# Altium footprint library PCBlib.PcbLib: 43 footprints (part 1 of 3)
Each footprint in its own frame and in the unit in brackets; x right, y up, seen from the top. Pads: shape width x height; smd on the part's side, far side on the other; paste and mask are expansions set on the pad; w line width, h text height; cw(c..) or ccw(c..) is an arc to the next point about the centre after c.
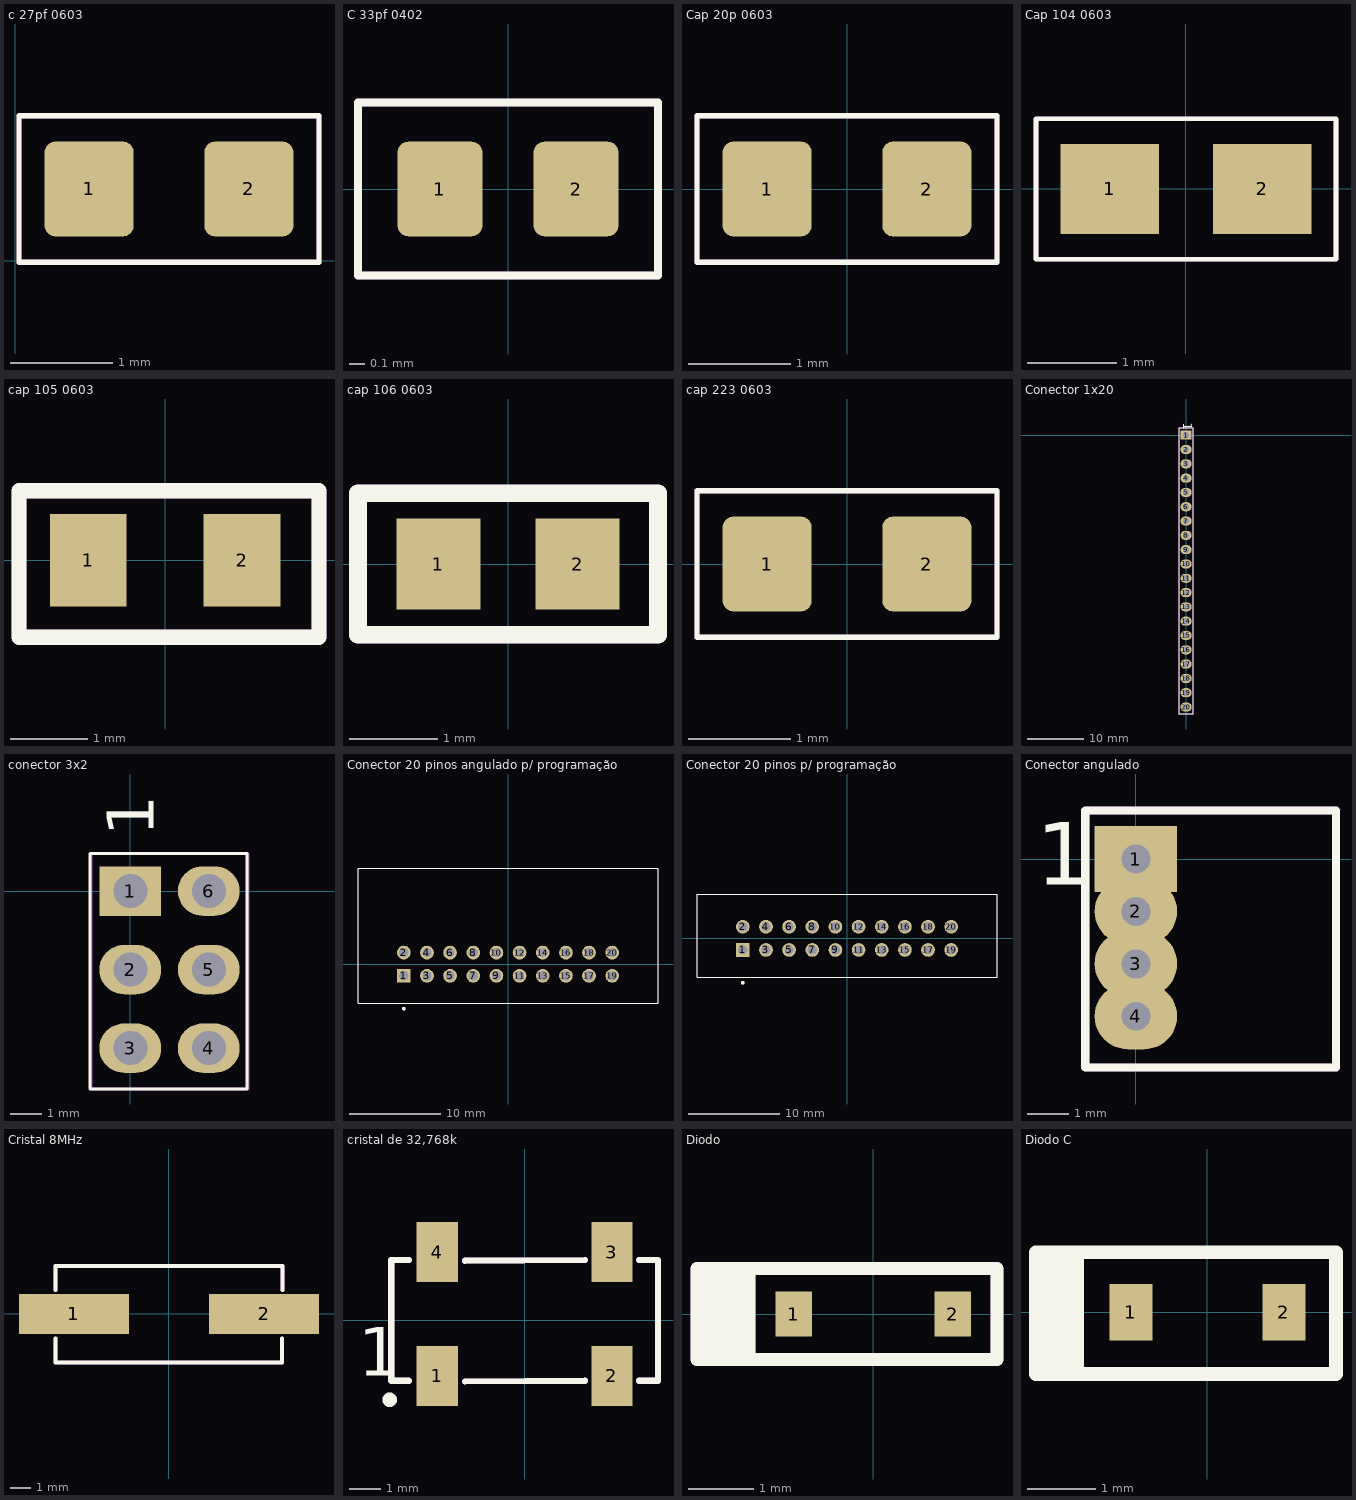
[diagram p0: the footprints below, top view; thin cyan lines are the x and y axes]

## c 27pf 0603 [mm]
pads (2):
  rrect25% 0.87x0.93 smd: 1(0.72,0.7) 2(2.28,0.7)
Top Overlay:
  lines w0.05: 0.035,-0.015 0.035,1.415 2.965,1.415 2.965,-0.015 0.035,-0.015
Top Assembly:
  lines w0.05: 0.035,-0.015 0.035,1.415 2.965,1.415 2.965,-0.015 0.035,-0.015
3D body "cap 27pf 0603.step": height 0.81, standoff 0.01, extent 0.75,0.25 2.35,1.15

## C 33pf 0402 [mm]
pads (2):
  rrect25% 0.54x0.6 smd: 1(-0.432,0) 2(0.432,0)
Top Overlay:
  lines w0.05: -0.952,-0.55 0.952,-0.55 0.952,0.55 -0.952,0.55 -0.952,-0.55
Top Assembly:
  lines w0.05: -0.952,-0.55 0.952,-0.55 0.952,0.55 -0.952,0.55 -0.952,-0.55
  text ".Designator" at -0.55,-0.317 h0.7
3D body "C 33pf 0402.STEP": height 0.51, standoff 0.01, extent -0.512,-0.301 0.488,0.249

## Cap 20p 0603 [mm]
pads (2):
  rrect25% 0.87x0.93 smd: 1(-0.78,0) 2(0.78,0)
Top Overlay:
  lines w0.05: -1.465,-0.715 1.465,-0.715 1.465,0.715 -1.465,0.715 -1.465,-0.715
Top Assembly:
  lines w0.05: -1.465,-0.715 1.465,-0.715 1.465,0.715 -1.465,0.715 -1.465,-0.715
  text ".Designator" at -1.25,-0.617 h0.7
3D body "cap 20p .STEP": height 0.81, standoff 0.01, extent -0.775,-0.45 0.825,0.45

## Cap 104 0603 [mm]
pads (2):
  rect 1.1x1 smd: 1(-0.85,0) 2(0.85,0)
Top Overlay:
  lines w0.051: -1.673,-0.783 -1.673,0.783 1.673,0.783 1.673,-0.783 -1.673,-0.783
Top Assembly:
  lines w0.051: -1.673,-0.783 -1.673,0.783 1.673,0.783 1.673,-0.783 -1.673,-0.783
  text ".Designator" at -1.5,-0.617 h0.7
3D body "Cap 104 0603.STEP": height 0.81, standoff 0.01, extent -0.8,-0.45 0.8,0.45

## cap 105 0603 [mm]
pads (2):
  rect 1x1.2 smd paste-2539.97: 1(-1,0) 2(1,0)
Top Overlay:
  lines w0.2: -1.9,-1 -1.9,0.9 2,0.9 2,-1 -1.9,-1
Top Paste:
  region: 0.5,-0.6 0.5,0.6 1.5,0.6 1.5,-0.6
  region: -1.5,-0.6 -1.5,0.6 -0.5,0.6 -0.5,-0.6
Top Assembly:
  lines w0.2: -1.9,-1 -1.9,0.9 2,0.9 2,-1 -1.9,-1
  text ".Designator" at -1.5,-0.617 h0.7
3D body "cap 105 0603.STEP": height 0.81, standoff 0.01, extent -0.9,-0.4 0.7,0.5

## cap 106 0603 [mm]
pads (2):
  rect 0.95x1.03 smd: 1(-0.788,0) 2(0.788,0)
Top Overlay:
  lines w0.2: -1.7,-0.8 -1.7,0.8 1.7,0.8 1.7,-0.8 -1.7,-0.8
Top Assembly:
  lines w0.2: -1.7,-0.8 -1.7,0.8 1.7,0.8 1.7,-0.8 -1.7,-0.8
  text ".Designator" at -1.5,-0.617 h0.7
3D body "cap 106 0603.step": height 0.81, standoff 0.01, extent -0.8,-0.5 0.8,0.5

## cap 223 0603 [mm]
pads (2):
  rrect25% 0.87x0.93 smd: 1(-0.78,0) 2(0.78,0)
Top Overlay:
  lines w0.05: -1.465,-0.715 1.465,-0.715 1.465,0.715 -1.465,0.715 -1.465,-0.715
Mechanical 1:
  text ".Designator" at -1.35,-0.625 h1.52
Top Assembly:
  lines w0.05: -1.465,-0.715 1.465,-0.715 1.465,0.715 -1.465,0.715 -1.465,-0.715
3D body "cap 223 0603.STEP": height 0.81, standoff 0.01, extent -0.775,-0.45 0.825,0.45

## Conector 1x20 [mm]
pads (20):
  rect 2x1.6 / inner rect 2x1.2 / far side rect 2x1.6 hole 1.1: 1(0,0)
  oval 2x1.6 / inner oval 2x1.2 / far side oval 2x1.6 hole 1.1: 2(0,-2.54) 3(0,-5.08) 4(0,-7.62) 5(0,-10.16) 6(0,-12.7) 7(0,-15.24) 8(0,-17.78) 9(0,-20.32) 10(0,-22.86) 11(0,-25.4) 12(0,-27.94) 13(0,-30.48) 14(0,-33.02) 15(0,-35.56) 16(0,-38.1) 17(0,-40.64) 18(0,-43.18) 19(0,-45.72) 20(0,-48.26)
Top Overlay:
  lines w0.1: -1.29,-49.5 -1.29,1.3 1.25,1.3 1.25,-49.5 -1.29,-49.5
  text "1" at -0.496,2.246 h1.52
Top Assembly:
  lines w0.1: -1.29,-49.5 -1.29,1.3 1.25,1.3 1.25,-49.5 -1.29,-49.5
  text ".Designator" at -0.417,1.325 h0.7
3D body "conector 1x20.stp": height 8.55, standoff -2.99, extent -1.27,-49.55 1.27,1.25

## conector 3x2 [mm]
pads (6):
  rect 2x1.6 hole 1.1: 1(0,0)
  oval 2x1.6 hole 1.1: 2(0,-2.54) 3(0,-5.08) 4(2.54,-5.08) 5(2.54,-2.54) 6(2.54,0)
Top Overlay:
  lines w0.1: -1.3,-6.4 3.78,-6.4 3.78,1.22 -1.3,1.22 -1.3,-6.4
  text "1" at 0.762,1.778 h1.52
Top Assembly:
  lines w0.1: -1.275,-6.4 3.805,-6.4 3.805,1.22 -1.275,1.22 -1.275,-6.4
  text ".Designator" at 3.217,-6.2 h0.7
3D body "conector 3x2.stp": height 8.55, standoff -2.99, extent -1.27,-6.35 3.81,1.27

## Conector 20 pinos angulado p/ programação [mm]
pads (20):
  rect 1.508x1.508 / inner round 1.508 / far side rect 1.508x1.508 hole 1 mask+0.05: 1(-11.43,-1.27)
  round 1.508 hole 1 mask+0.05: 2(-11.43,1.27) 3(-8.89,-1.27) 4(-8.89,1.27) 5(-6.35,-1.27) 6(-6.35,1.27) 7(-3.81,-1.27) 8(-3.81,1.27) 9(-1.27,-1.27) 10(-1.27,1.27) 11(1.27,-1.27) 12(1.27,1.27) 13(3.81,-1.27) 14(3.81,1.27) 15(6.35,-1.27) 16(6.35,1.27) 17(8.89,-1.27) 18(8.89,1.27) 19(11.43,-1.27) 20(11.43,1.27)
Top Overlay:
  circle w0.2: c-11.43,-4.873 r0.1
  lines w0.127: -16.45,-4.273 -16.45,10.5 16.45,10.5 16.45,-4.273 -16.45,-4.273
Top Assembly:
  circle w0.2: c-11.43,-4.873 r0.1
  lines w0.127: -16.45,-4.273 -16.45,10.5 16.45,10.5 16.45,-4.273 -16.45,-4.273
  text ".Designator" at -15.7,-3.717 h0.7
3D body "conc 20p ang.stp": height 8.9, standoff -3.04, extent -16.51,-1.5 16.51,10.569

## Conector 20 pinos p/ programação [mm]
pads (20):
  rect 1.508x1.508 / inner round 1.508 / far side rect 1.508x1.508 hole 1 mask+0.05: 1(-11.43,-1.27)
  round 1.508 hole 1 mask+0.05: 2(-11.43,1.27) 3(-8.89,-1.27) 4(-8.89,1.27) 5(-6.35,-1.27) 6(-6.35,1.27) 7(-3.81,-1.27) 8(-3.81,1.27) 9(-1.27,-1.27) 10(-1.27,1.27) 11(1.27,-1.27) 12(1.27,1.27) 13(3.81,-1.27) 14(3.81,1.27) 15(6.35,-1.27) 16(6.35,1.27) 17(8.89,-1.27) 18(8.89,1.27) 19(11.43,-1.27) 20(11.43,1.27)
Top Overlay:
  circle w0.2: c-11.43,-4.873 r0.1
  lines w0.127: -16.45,-4.273 -16.45,4.827 16.45,4.827 16.45,-4.273 -16.45,-4.273
Top Assembly:
  circle w0.2: c-11.43,-4.873 r0.1
  lines w0.127: -16.45,-4.273 -16.45,4.827 16.45,4.827 16.45,-4.273 -16.45,-4.273
  text ".Designator" at -15.7,-3.717 h0.7
3D body "conector 20P program.STEP": height 8.8, standoff -3.29, extent -16.447,-4.269 16.447,4.824

## Conector angulado [mm]
pads (4):
  rect 2x1.6 hole 0.7: 1(0,0)
  oval 2x1.6 hole 0.7: 2(0,-1.27) 3(0,-2.54) 4(0,-3.81)
Top Overlay:
  lines w0.2: -1.225,-5.05 -1.225,1.175 4.85,1.175 4.85,-5.05 -1.225,-5.05
  text "1" at -2.421,-0.621 h1.52
Top Assembly:
  lines w0.2: -1.225,-5.05 -1.225,1.175 4.85,1.175 4.85,-5.05 -1.225,-5.05
  text ".Designator" at -0.7,-4.717 h0.7
3D body "conctor angulado.STEP": height 2.15, standoff -2.48, extent -0.252,-4.4 4.701,0.68

## Cristal 8MHz [mm]
pads (2):
  rect 5.5x2 smd paste-2539.97: 1(-4.75,0) 2(4.75,0)
Top Overlay:
  lines w0.2: -5.675,-1.225 -5.675,-2.425 5.65,-2.425 5.65,-1.225 ; -5.675,1.2 -5.675,2.4 5.675,2.4 5.675,1.2
Top Paste:
  region: -7.5,-1 -7.5,1 -2,1 -2,-1
  region: 2,-1 2,1 7.5,1 7.5,-1
Top Assembly:
  lines w0.2: -5.675,-1.225 -5.675,-2.425 5.65,-2.425 5.65,-1.225 ; -5.675,1.2 -5.675,2.4 5.675,2.4 5.675,1.2
  text ".Designator" at -5.325,-2.167 h0.7
3D body "cristal 8MHZ.STEP": height 4.31, standoff 0.01, extent -6.6,-2.41 6.6,2.39

## cristal de 32,768k [mm]
pads (4):
  rect 1.3x1.9 smd paste-2539.97: 1(-2.75,-1.75) 2(2.75,-1.75) 3(2.75,2.15) 4(-2.75,2.15)
Top Overlay:
  circle w0.254: c-4.25,-2.5 r0.1
  lines w0.2: -3.65,-1.9 -4.2,-1.9 -4.2,0 -4.2,1.9 -3.65,1.9 ; -1.875,-1.925 1.9,-1.9 ; -1.875,1.875 1.9,1.9 ; 3.6,-1.9 4.2,-1.9 4.2,0 4.2,1.9 3.6,1.9
  text "1" at -5.246,-1.746 h1.52
Top Paste:
  region: -2.1,-2.7 -3.4,-2.7 -3.4,-0.8 -2.1,-0.8
  region: 3.4,-2.7 2.1,-2.7 2.1,-0.8 3.4,-0.8
  region: -2.1,1.2 -3.4,1.2 -3.4,3.1 -2.1,3.1
  region: 3.4,1.2 2.1,1.2 2.1,3.1 3.4,3.1
Top Assembly:
  lines w0.2: -3.65,-1.9 -4.2,-1.9 -4.2,0 -4.2,1.9 -3.65,1.9 ; -1.875,-1.925 1.9,-1.9 ; -1.875,1.875 1.9,1.9 ; 3.6,-1.9 4.2,-1.9 4.2,0 4.2,1.9 3.6,1.9
  text ".Designator" at -3.825,0.083 h0.7
3D body "cristal 32,768k.STEP": height 2.51, standoff -0.15, extent -4,-2 4,2

## Diodo [mm]
pads (2):
  rect 0.56x0.69 smd: 1(-1.22,0) 2(1.22,0)
Top Overlay:
  rectangle: -2.7,-0.7 -1.8,0.7
  lines w0.2: -2.7,-0.7 1.9,-0.7 1.9,0.7 -2.7,0.7 -2.7,-0.7
Top Assembly:
  rectangle: -2.7,-0.7 -1.8,0.7
  lines w0.2: -2.7,-0.7 1.9,-0.7 1.9,0.7 -2.7,0.7 -2.7,-0.7
  text ".Designator" at -1.725,-0.417 h0.7
3D body "Diodo.STEP": height 1.16, standoff 0.01, extent -1.3,-0.625 1.2,0.625

## Diodo C [mm]
pads (2):
  rect 0.63x0.83 smd: 1(-1.115,0) 2(1.115,0)
Top Overlay:
  rectangle: -2.5,-0.925 -1.8,0.875
  lines w0.2: -2.5,-0.9 -2.5,0.875 1.875,0.875 1.875,-0.9 -2.5,-0.9
3D body "Diodo C.step": height 1.01, standoff 0.01, extent -1.25,-0.619 1.25,0.619